# Altium footprint library SMB.PcbLib: 1 footprints
Each footprint in its own frame and in the unit in brackets; x right, y up, seen from the top. Pads: shape width x height; smd on the part's side, far side on the other; paste and mask are expansions set on the pad; w line width, h text height; cw(c..) or ccw(c..) is an arc to the next point about the centre after c.
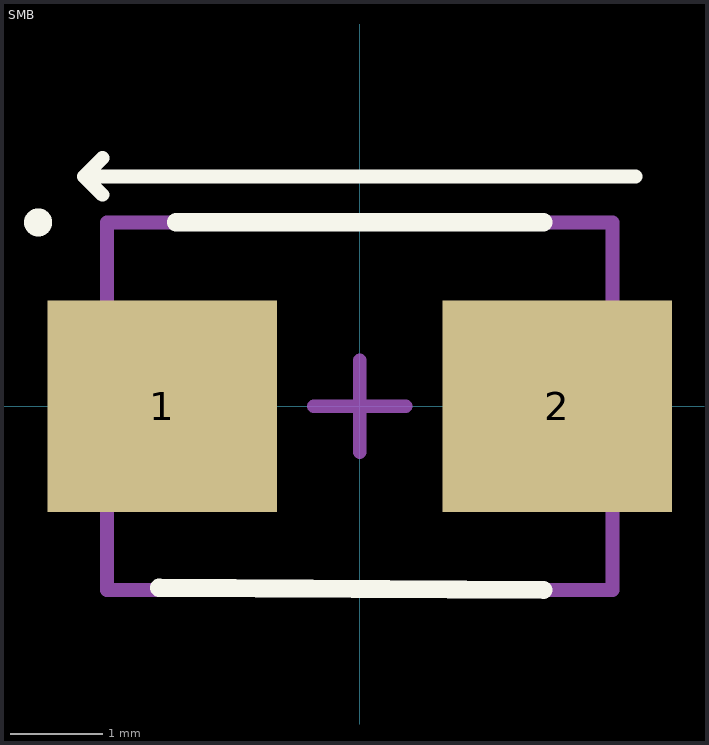
[diagram p0: the footprint, top view; thin cyan lines are the x and y axes]

## SMB [mm]
pads (2):
  rect 2.5x2.3 smd mask+0.051: 1(-2.15,0)
  rect 2.5x2.3 smd paste+0 mask+0.051: 2(2.15,0)
Top Overlay:
  circle w0.254: c-3.5,2 r0.025
  lines w0.15: -2.8,2.3 -3,2.5 ; 3,2.5 -3,2.5 ; -3,2.5 -2.8,2.7 -3,2.5 ; -3,2.5 -3,2.5
  lines w0.2: -2.183,-1.976 2,-2 ; -2,2 2,2
Mechanical 13:
  lines w0.15: -2.75,-2 -2.75,2 2.75,2 2.75,-2 -2.75,-2
Mechanical 15:
  lines w0.15: -0.5,0 0,0 ; 0,0 0,0.5 0,0 ; 0,0 0.5,0 0,0 ; 0,0 0,-0.5 0,0
3D body "SMB.step": height 2.45, standoff 0, extent -2.795,-1.97 2.795,1.97